# Altium schematic symbol library PCB.SCHLIB: 19 symbols
Pins are listed as number, name and electrical type; pins without a type are passive.

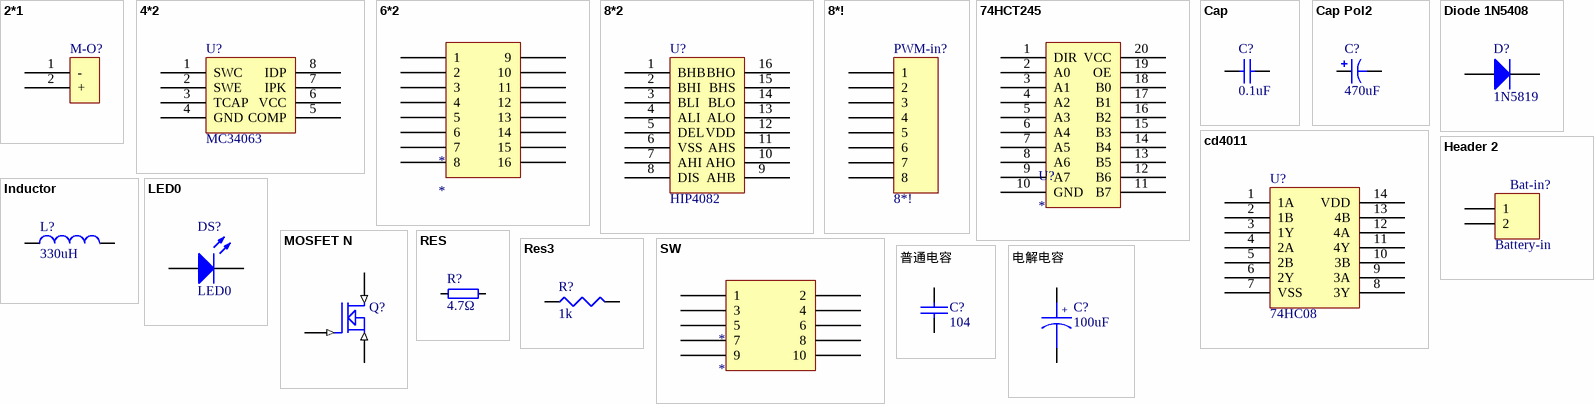
[diagram p0: symbols 2*1 to 电解电容]

## 2*1
designator M-O?
footprint T型插头
pins: 1 -, 2 +

## 4*2
designator U?, comment MC34063
footprint SO-8
pins: 1 SWC, 2 SWE, 3 TCAP, 4 GND, 5 COMP, 6 VCC, 7 IPK, 8 IDP

## 6*2
designator *
pins: 1, 2, 3, 4, 5, 6, 7, 8, 9, 10, 11, 12, 13, 14, 15, 16

## 8*2
designator U?, comment HIP4082
footprint SO-16 (Small Outline; 16 Leads; Body Width 5.6 mm; Pitch 1.27 mm)
pins: 1 BHB, 2 BHI, 3 BLI, 4 ALI, 5 DEL, 6 VSS, 7 AHI, 8 DIS, 9 AHB, 10 AHO, 11 AHS, 12 VDD, 13 ALO, 14 BLO, 15 BHS, 16 BHO

## 8*!
designator PWM-in?
footprint HDR1X8 (Connector; Header; 8 Position)
pins: 1, 2, 3, 4, 5, 6, 7, 8

## 74HCT245
designator U?
pins: 1 DIR, 2 A0, 3 A1, 4 A2, 5 A3, 6 A4, 7 A5, 8 A6, 9 A7, 10 GND, 11 B7, 12 B6, 13 B5, 14 B4, 15 B3, 16 B2, 17 B1, 18 B0, 19 OE, 20 VCC

## Cap
designator C?, comment 0.1uF
Capacitor; Published: 8-Jun-2000; LatestRevisionDate: 17-Jul-2002; LatestRevisionNote: Re-released for DXP Platform.; Publisher: Altium Limited
simulation model CAP (Capacitor)
signal-integrity model Cap
footprint C0603
pins: 1, 2

## Cap Pol2
designator C?  value 470uF  (hidden comment: Cap Pol2)
Polarized Capacitor (Axial); Published: 8-Jun-2000; LatestRevisionDate: 17-Jul-2002; LatestRevisionNote: Re-released for DXP Platform.; PackageReference: POLAR0.8; Publisher: Altium Limited; PackageDescription: Polarized Capacitor; 2 Leads
footprint 3216
simulation model CAP (Capacitor)
signal-integrity model Cap Pol
pins: 1, 2
1 alternate drawing of the same symbol

## cd4011
designator U?, comment 74HC08
footprint SO-14
pins: 1 1A, 2 1B, 3 1Y, 4 2A, 5 2B, 6 2Y, 7 VSS, 8 3Y, 9 3A, 10 3B, 11 4Y, 12 4A, 13 4B, 14 VDD

## Diode 1N5408
designator D?, comment 1N5819
3 Amp Medium Power Silicon Rectifier Diode; Published: 8-Jun-2000; LatestRevisionDate: 17-Jul-2002; LatestRevisionNote: Re-released for DXP Platform.; DatasheetDocument: Aug-1984; PackageReference: DO-201AD; Publisher: Altium Limited; ComponentLink1Description: Manufacturer Link; ComponentLink1URL: http://www.irf.com/
footprint DO-201AD (Diode, Axial; Body 9.5 x 5.3 mm (LxDia. max), Lead Dia. 1.32 mm (max))
simulation model 1N5408 (DIODE)
signal-integrity model 1N5408
footprint 0603S
footprint 0603
footprint 0603 (Chip Inductor, Body 0.6x0.3mm, IPC High Density)
pins: 1 A, 2 K

## Header 2
designator Bat-in?, comment Battery-in
Header, 2-Pin; LatestRevisionDate: 17-Jul-2002; LatestRevisionNote: Re-released for DXP Platform.; Publisher: Altium Limited
footprint T型插头
pins: 1, 2

## Inductor
designator L?, comment 330uH
Inductor; Code_IEC: 1005; Published: 8-Jun-2000; LatestRevisionDate: 17-Jul-2002; LatestRevisionNote: Re-released for DXP Platform.; PackageReference: 0402-A; Publisher: Altium Limited; Code_JEITA: 0402
footprint 0402-A (Chip Inductor; Body 1 x 0.5 mm (LxW typ))
footprint L0603 (Chip Inductor; Body 1.6 x 0.8 mm (LxW typ))
footprint 2012_Chip (2012 Chip; Chip Inductor; Body 2.0 x 1.2 mm (LxW typ))
footprint 2029 (Chip Inductor; Body 2 x 1.2 mm (LxW typ))
footprint 3261 (3216 Chip; Chip Inductor; Body 3.2 x 1.6 mm (LxW typ))
footprint 4564_Chip (4564 Chip; Chip Inductor; Body 4.5 x 6.4 mm (LxW typ))
simulation model INDUCTOR (Inductor)
signal-integrity model Inductor
footprint 电感
pins: 1, 2

## LED0
designator DS?
Typical INFRARED GaAs LED; Published: 8-Jun-2000; LatestRevisionDate: 08-Jul-2005; LatestRevisionNote: Mech Layer 1 removed.; PackageReference: LED-0; Publisher: Altium Limited; PackageDescription: LED; 2 Leads
footprint R0603
simulation model LED0 (Diode)
pins: 1 A, 2 K

## MOSFET N
designator Q?
footprint DPAK (Footprint not found)
pins: 1 G (in), 2 D (in), 3 S (in)

## RES
designator R?, comment 4.7Ω
footprint AXIAL0.3
footprint AXIAL0.4
footprint AXIAL0.5
footprint 0805
footprint 6-0805_N
pins: 1, 2

## Res3
designator R?  value 1k  (hidden comment: Res3)
Resistor; Published: 8-Jun-2000; LatestRevisionDate: 17-Jul-2002; LatestRevisionNote: Re-released for DXP Platform.; Publisher: Altium Limited
simulation model RESISTOR (Resistor)
signal-integrity model Res
footprint R0603
pins: 1, 2

## SW
designator *
pins: 1, 2, 3, 4, 5, 6, 7, 8, 9, 10

## 普通电容
designator C?, comment 104
Capacitor
footprint RAD0.1
footprint RAD0.2
footprint RAD0.3
footprint 0603S
footprint 0603
footprint 0603 (Chip Inductor, Body 0.6x0.3mm, IPC High Density)
pins: 1, 2

## 电解电容
designator C?, comment 100uF
Capacitor
footprint 极性10uF
pins: 1, 2
text: +